# Altium footprint library TDFN-8-5x6.PcbLib: 1 footprints
Each footprint in its own frame and in the unit in brackets; x right, y up, seen from the top. Pads: shape width x height; smd on the part's side, far side on the other; paste and mask are expansions set on the pad; w line width, h text height; cw(c..) or ccw(c..) is an arc to the next point about the centre after c.
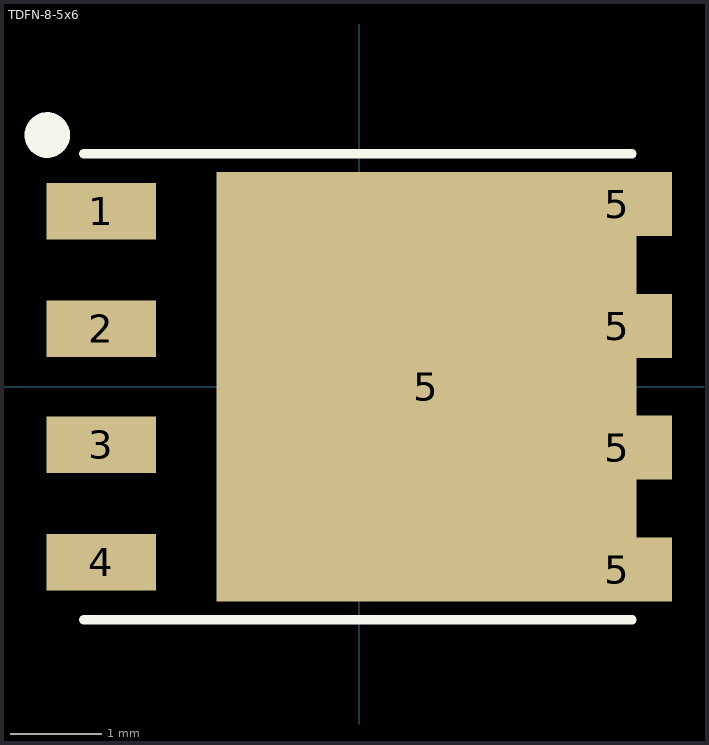
[diagram p0: the footprint, top view; thin cyan lines are the x and y axes]

## TDFN-8-5x6 [mm]
pads (9):
  rect 1.2x0.62 smd: 1(-2.825,1.92) 2(-2.825,0.635) 3(-2.825,-0.635) 4(-2.825,-1.92)
  rect 4.6x4.7 smd: 5(0.735,0)
  rect 1.2x0.7 smd: 5(2.825,-2) 5(2.825,-0.665) 5(2.825,0.665) 5(2.825,2)
Top Overlay:
  circle w0.25: c-3.415,2.755 r0.125
  lines w0.1: -3.015,-2.55 2.985,-2.55 ; -3.015,2.55 2.985,2.55
3D body: height 1.1, standoff 0, extent -3.015,-2.495 2.985,2.505